# Altium integrated library CMA-4544PF-W.IntLib: 1 symbol
Pins are listed as number, name and electrical type; pins without a type are passive.

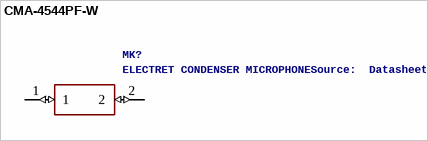
[diagram p0: symbol CMA-4544PF-W]

## CMA-4544PF-W
designator MK?, comment ELECTRET CONDENSER MICROPHONESource:  Datasheet
Manufacturer_Name: CUI; GateName_1: G$1; SymbolName_1: CMA-4544PF-W; LibraryName: CMA-4544PF-W; DeviceSetName: CMA-4544PF-W; Package: CMA-4544PF-W; Manufacturer_Part_Number: CMA-4544PF-W; Arrow_Part_Number: CMA-4544PF-W; Arrow_Price-Stock: https://www.arrow.com/en/products/cma-4544pf-w/cui-inc; Description: ELECTRET CONDENSER MICROPHONE; Height: mm
footprint CMA-4544PF-W
pins: 1 (io), 2 (io)